# Altium integrated library WE-CMBH Common Mode Power Line Choke (Horizontal).IntLib: 5 symbols
Pins are listed as number, name and electrical type; pins without a type are passive.

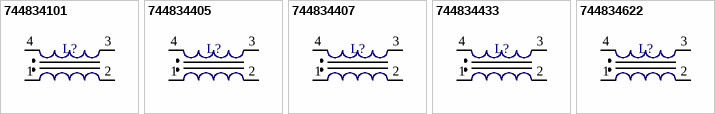
[diagram p0: symbols 744834101 to 744834622]

## 744834101
designator L?
THT Common Mode Power Line Choke WE-CMBH, L=1.0 mH; PartNumber: 744834101; Inductance: 1.0 mH; PackageReference: WE-CMBH; ComponentLink1Description: Manufacturer URL; ComponentLink1URL: http://www.we-online.com; ComponentLink2Description: Datasheet; ComponentLink2URL: http://www.we-online.de/katalog/media/pdf/744834101.pdf
footprint WE-CMBH (THT Inductor, 4-Leads, Body 28 x 32.5mm)
pins: 1, 2, 3, 4

## 744834405
designator L?
THT Common Mode Power Line Choke WE-CMBH, L=5.0 mH; PartNumber: 744834405; Inductance: 5.0 mH; PackageReference: WE-CMBH; ComponentLink1Description: Manufacturer URL; ComponentLink1URL: http://www.we-online.com; ComponentLink2Description: Datasheet; ComponentLink2URL: http://www.we-online.de/katalog/media/pdf/744834405.pdf
footprint WE-CMBH (THT Inductor, 4-Leads, Body 28 x 32.5mm)
pins: 1, 2, 3, 4

## 744834407
designator L?
THT Common Mode Power Line Choke WE-CMBH, L=7.0 mH; PartNumber: 744834407; Inductance: 7.0 mH; PackageReference: WE-CMBH; ComponentLink1Description: Manufacturer URL; ComponentLink1URL: http://www.we-online.com; ComponentLink2Description: Datasheet; ComponentLink2URL: http://www.we-online.de/katalog/media/pdf/744834407.pdf
footprint WE-CMBH (THT Inductor, 4-Leads, Body 28 x 32.5mm)
pins: 1, 2, 3, 4

## 744834433
designator L?
THT Common Mode Power Line Choke WE-CMBH, L=3.3 mH; PartNumber: 744834433; Inductance: 3.3 mH; PackageReference: WE-CMBH; ComponentLink1Description: Manufacturer URL; ComponentLink1URL: http://www.we-online.com; ComponentLink2Description: Datasheet; ComponentLink2URL: http://www.we-online.de/katalog/media/pdf/744834433.pdf
footprint WE-CMBH (THT Inductor, 4-Leads, Body 28 x 32.5mm)
pins: 1, 2, 3, 4

## 744834622
designator L?
THT Common Mode Power Line Choke WE-CMBH, L=2.2 mH; PartNumber: 744834622; Inductance: 2.2 mH; PackageReference: WE-CMBH; ComponentLink1Description: Manufacturer URL; ComponentLink1URL: http://www.we-online.com; ComponentLink2Description: Datasheet; ComponentLink2URL: http://www.we-online.de/katalog/media/pdf/744834622.pdf
footprint WE-CMBH (THT Inductor, 4-Leads, Body 28 x 32.5mm)
pins: 1, 2, 3, 4